# Altium integrated library B293A MiRLIN Integrated PIC32.IntLib: 44 symbols
Pins are listed as number, name and electrical type; pins without a type are passive.

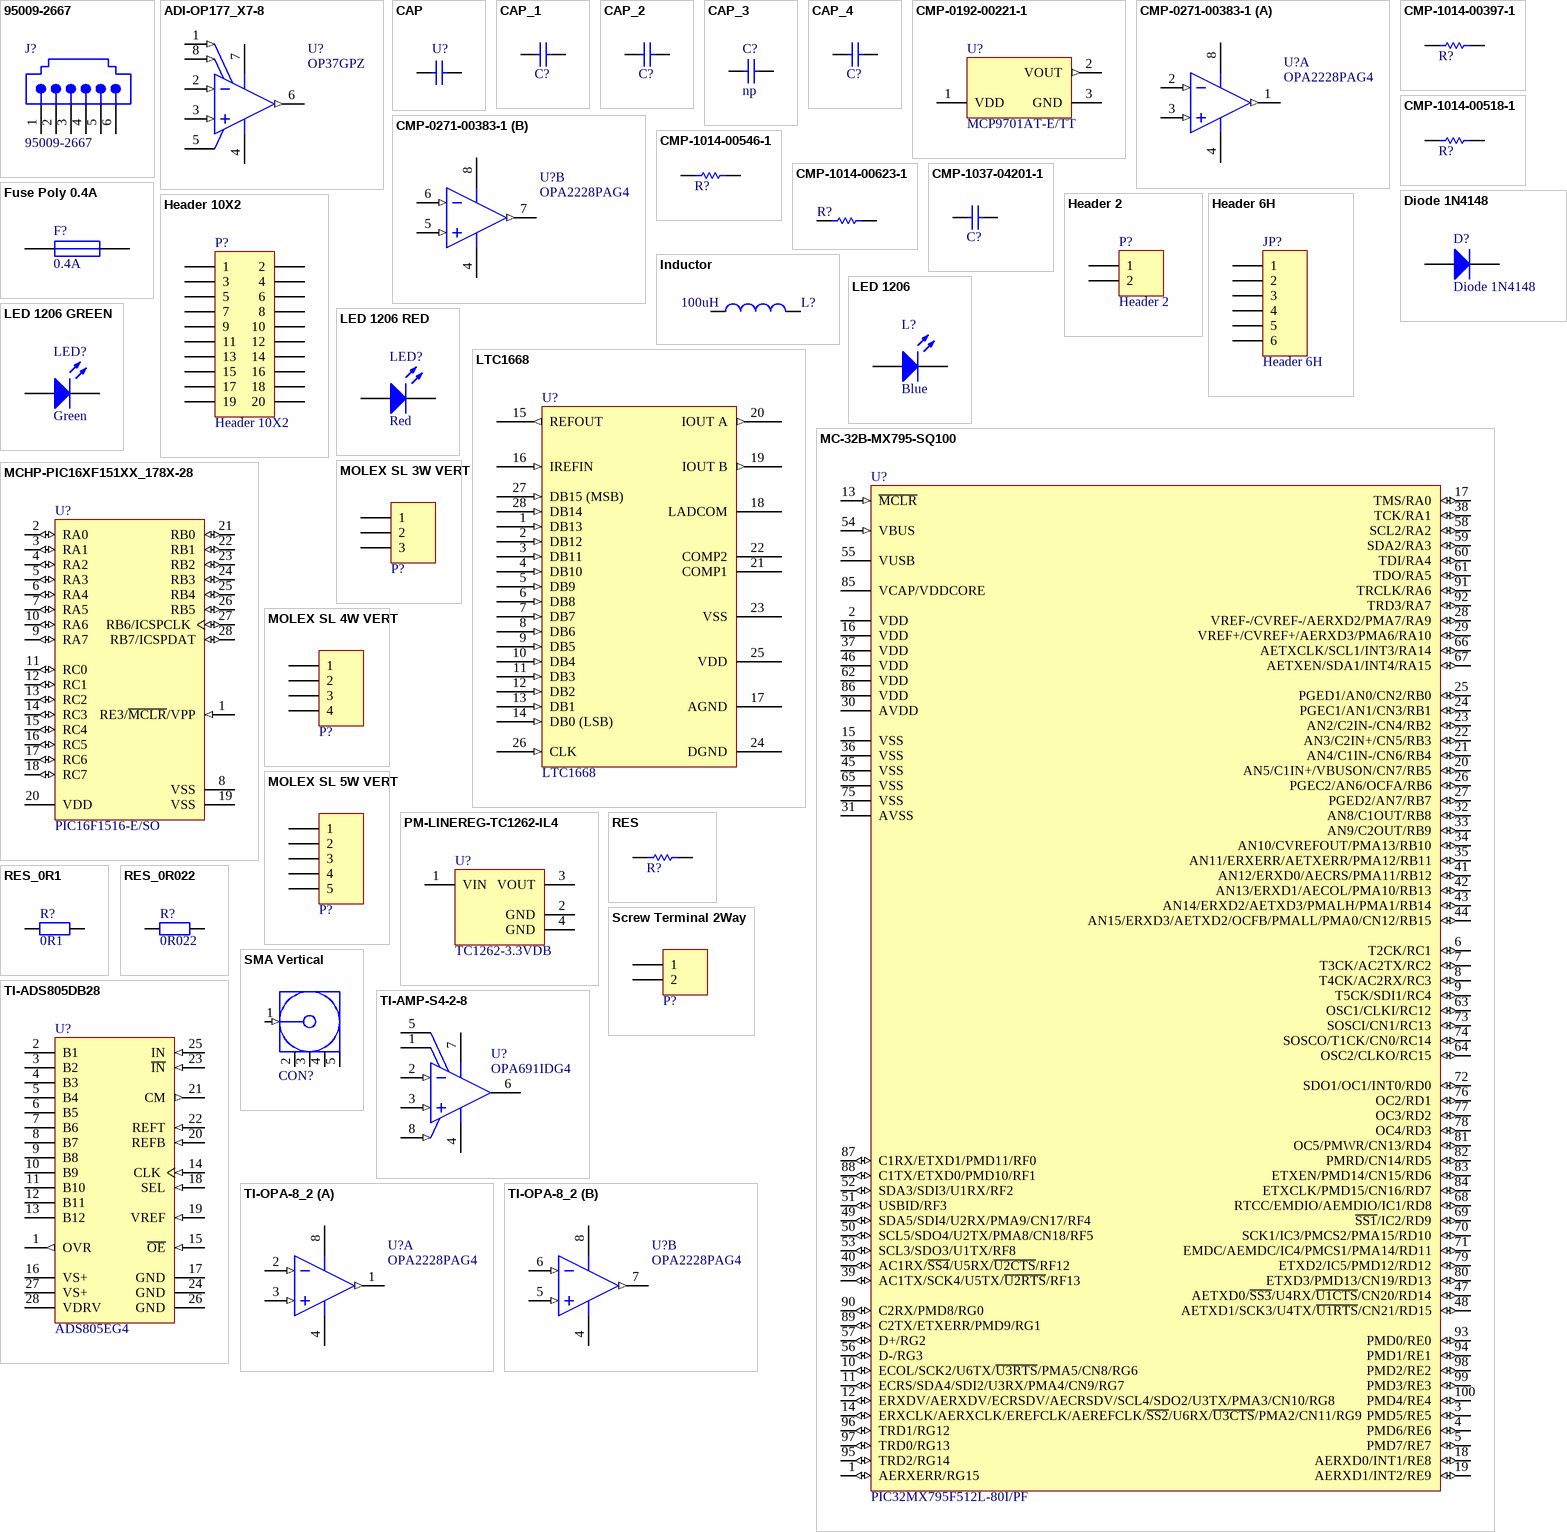
[diagram p0: symbols 95009-2667 to TI-OPA-8_2]

## 95009-2667
designator J?
Right Angle, Standard Profile, Flush Mount PCB Jack; Ports: 1; Positions/Loaded: Port1 - 6/6; PerformanceCategory: 3; PCB_Mounting: Thru-Hole; DrillSize: Nominal, Rounded to nearest 0.05mm; PCB_Layout: Complies with Manufacturer's Recommendation.; Published: 25-Jun-2002; DatasheetDocument: 18-Dec-2001; PackageDocument: 18-Dec-2001; PackageReference: 95009-2667; Publisher: Altium Limited; ComponentLink1Description: Manufacturer Link; ComponentLink1URL: http://www.molex.com/
footprint 95009-2667 (Connector; PCB Jack, Thru-Hole; 1-Port, 6 Positions, 6 Loaded; Unshielded without Lightpipes; Right Angle)
signal-integrity model Modular Jack
pins: 1, 2, 3, 4, 5, 6

## ADI-OP177_X7-8
designator U?, comment OP37GPZ
Single Channel Low Noise Operational Amplifier, 63 MHz BW, 17 V/us SR, Industrial, 8-pin DIP (N-8), Tube; Manufacturer: Analog Devices; PackageReference: N-8; ComponentLink1Description: Manufacturer URL; ComponentLink1URL: http://www.analog.com/en/index.html; ComponentLink2URL: http://www.analog.com/static/imported-files/data_sheets/OP37.pdf; ComponentLink3Description: Package Specification; PackageDescription: 8-Pin Plastic Dual In-Line Package, Row spacing 7.62 mm, Pitch 2.54 mm; ComponentLink3URL: http:/www.analog.com/static/imported-files/packages/PKG_PDF/PDIP(N)/N_8.pdf; ComponentLink2Description: Datasheet; DatasheetVersion: Rev. B; PackageVersion: 070606-A; Code_JEDEC: MS-001
footprint ADI-N-8 (DIP, 8-Leads, Body 9.59x6.6mm, Pitch 2.54mm)
pins: 1 VOS TRIM (in), 2 -IN (in), 3 +IN (in), 4 V- (power), 5 NC, 6 OUT (out), 7 V+ (power), 8 VOS TRIM (in)

## CAP
designator U?, comment CAP 10nF 50V 1206(3216)  (value not drawn)
CAP 10nF 50V ±10% 1206 (3216 Metric) Thickness 1.7mm SMD; Case-Metric: 3216; Case-EIA: 1206; Value: 10nF; Max Thickness: 1.7 mm; Technology: SMT; Rated Voltage: 50 V; Tolerance: ±10%
footprint CAPC1206(3216)170_M (Chip Capacitor, Body 3.2x1.6mm, Height 1.7mm, IPC Low Density)
footprint CAPC1206(3216)170_N (Chip Capacitor, Body 3.2x1.6mm, Height 1.7mm, IPC Medium Density)
footprint CAPC1206(3216)170_L (Chip Capacitor, Body 3.2x1.6mm, Height 1.7mm, IPC High Density)
pins: 1, 2
1 alternate drawing of the same symbol

## CAP_1
designator C?, comment CAP 10uF 50V 1206(3216)  (value not drawn)
CAP 10uF 50V ±10% 1206 (3216 Metric) Thickness 1.9mm SMD; Case-EIA: 1206; Case-Metric: 3216; Technology: SMT; Tolerance: ±10%; Max Thickness: 1.9 mm; Value: 10uF; Rated Voltage: 50 V
footprint CAPC1206(3216)190_M (Chip Capacitor, Body 3.2x1.6mm, Height 1.9mm, IPC Low Density)
footprint CAPC1206(3216)190_N (Chip Capacitor, Body 3.2x1.6mm, Height 1.9mm, IPC Medium Density)
footprint CAPC1206(3216)190_L (Chip Capacitor, Body 3.2x1.6mm, Height 1.9mm, IPC High Density)
pins: 1, 2
1 alternate drawing of the same symbol

## CAP_2
designator C?, comment CAP 10uF 16V 1206(3216)  (value not drawn)
CAP 10uF 16V -20% to +80% 1206 (3216 Metric) Thickness 1.3mm SMD; Case-EIA: 1206; Case-Metric: 3216; Rated Voltage: 16 V; Tolerance: -20% to +80%; Technology: SMT; Value: 10uF; Max Thickness: 1.3 mm
footprint CAPC1206(3216)130_L (Chip Capacitor, Body 3.2x1.6mm, Height 1.3mm, IPC High Density)
footprint CAPC1206(3216)130_M (Chip Capacitor, Body 3.2x1.6mm, Height 1.3mm, IPC Low Density)
footprint CAPC1206(3216)130_N (Chip Capacitor, Body 3.2x1.6mm, Height 1.3mm, IPC Medium Density)
pins: 1, 2
1 alternate drawing of the same symbol

## CAP_3
designator C?, comment np
Capacitor
footprint 0805
footprint 1206
footprint 3225[1210] (Chip Resistor; Body 3.2 x 2.5 mm (LxW typ))
pins: 1, 2

## CAP_4
designator C?, comment CAP 1nF 50V 2220(5750)  (value not drawn)
CAP 1nF 50V ±10% 2220 (5750 Metric) Thickness 2.2mm SMD; Case-Metric: 5750; Case-EIA: 2220; Value: 1nF; Max Thickness: 2.2 mm; Tolerance: ±10%; Rated Voltage: 50 V; Technology: SMT
footprint CAPC2220(5750)230_L (Chip Capacitor, Body 5.7x5.0mm, Height 2.3mm, IPC High Density)
footprint CAPC2220(5750)230_N (Chip Capacitor, Body 5.7x5.0mm, Height 2.3mm, IPC Medium Density)
footprint CAPC2220(5750)230_M (Chip Capacitor, Body 5.7x5.0mm, Height 2.3mm, IPC Low Density)
pins: 1, 2
1 alternate drawing of the same symbol

## CMP-0192-00221-1
designator U?, comment MCP9701AT-E/TT
Low-Power Linear Active Thermistor IC, 3-Pin SOT-23, Extended Temperature, Tape and Reel; PackageDescription: 3-Lead Plastic Small Outline Transistor (TT) [SOT-23]; DatasheetVersion: revE, Apr-2009; Code_IPC: SOT23-3; PackageVersion: revBB, Aug-2009; PackageReference: SOT-23-TT3
footprint SOT-23-TT3_M (SOT23, 3-Leads, Body 2.9x1.3mm, Pitch 0.95mm, Lead Span 2.4mm, IPC Low Density)
footprint SOT-23-TT3_L (SOT23, 3-Leads, Body 2.9x1.3mm, Pitch 0.95mm, Lead Span 2.4mm, IPC High Density)
footprint SOT-23-TT3_N (SOT23, 3-Leads, Body 2.9x1.3mm, Pitch 0.95mm, Lead Span 2.4mm, IPC Medium Density)
pins: 1 VDD (power), 2 VOUT (out), 3 GND (power)

## CMP-0271-00383-1
designator U?, comment OPA2228PAG4
High Precision, Low Noise Operational Amplifier, 5 to 36 V, -55 to 125 degC, 8-pin DIP (P8), Green (RoHS & no Sb/Br); Packing: TUBE; Sub Family: High Supply Voltage Amplifier (>=30V), Low Noise Amp (<=10nV/rtHz), Low Offset Voltage Amplifier (<=500uV), Precision Amplifier; CMRR(Min)(dB): 120; Vio (25C)(Max)(mV): 0.2; Total Supply Voltage(Max)(+5V is 5, +/-5V is 10): 36; Number of Channels: 2; Total Supply Voltage(Min)(+5V is 5, +/-5V is 10): 5; Rating: Catalog; GBW(Typ)(MHz): 33; Offset Drift(Typ)(uV/C): 0.3; IIB(Max)(pA): 10000; Iq per channel(Max)(mA): 3.8; Slew Rate(Typ)(V/us): 11; Code_JEDEC: MS-001; PackageDescription: 8-Pin Plastic In-Line, Body 9.59 x 6.35 mm, Pitch 2.54 mm; ComponentLink2URL: http://www.ti.com/lit/ds/symlink/opa2228.pdf; ComponentLink3URL: http://www.ti.com/litv/pdf/mpdi001b; PartNumber: OPA2228PAG4; PackageReference: P8; ComponentLink1URL: http://www.ti.com/; Eco-Plan: Green (RoHS & no Sb/Br); PackageVersion: 4040082/E, 04/2010; ComponentLink3Description: Package Specification; ComponentLink1Description: Manufacturer URL; Mounting Technology: Through Hole; DatasheetVersion: SBOS110A; ComponentLink2Description: Datasheet
footprint TI-P8 (DIP, 8-Leads, Body 9.59x6.35mm, Pitch 2.54mm)
pins on every part: 4 V- (power), 8 V+ (power)
part A pins: 1 OUT A (out), 2 IN A- (in), 3 IN A+ (in)
part B pins: 5 IN B+ (in), 6 IN B- (in), 7 OUT B (out)

## CMP-1014-00397-1
designator R?, comment 100R 1% 1206(3216)  (value not drawn)
100R 0.25W 1% 1206 (3216 Metric)  SMD; Value: 100.00 Ohm; Case-Metric: 3216; Case-EIA: 1206; Technology: SMT; Tolerance: 1 %
footprint RESC1206(3216)_N (Chip Resistor, Body 3.2x1.6mm, IPC Medium Density)
footprint RESC1206(3216)_L (Chip Resistor, Body 3.2x1.6mm, IPC High Density)
footprint RESC1206(3216)_M (Chip Resistor, Body 3.2x1.6mm, IPC Low Density)
pins: 1, 2
1 alternate drawing of the same symbol

## CMP-1014-00518-1
designator R?, comment 1K2 1% 1206(3216)  (value not drawn)
1K2 0.25W 1% 1206 (3216 Metric)  SMD; Case-Metric: 3216; Case-EIA: 1206; Value: 1200.00 Ohm; Technology: SMT; Tolerance: 1 %
footprint RESC1206(3216)_M (Chip Resistor, Body 3.2x1.6mm, IPC Low Density)
footprint RESC1206(3216)_L (Chip Resistor, Body 3.2x1.6mm, IPC High Density)
footprint RESC1206(3216)_N (Chip Resistor, Body 3.2x1.6mm, IPC Medium Density)
pins: 1, 2
1 alternate drawing of the same symbol

## CMP-1014-00546-1
designator R?, comment 2K2 1% 1206(3216)  (value not drawn)
2K2 0.25W 1% 1206 (3216 Metric)  SMD; Fitted: No; Value: 2200.00 Ohm; Case-Metric: 3216; Case-EIA: 1206; Technology: SMT; Tolerance: 1 %
footprint RESC1206(3216)_N (Chip Resistor, Body 3.2x1.6mm, IPC Medium Density)
footprint RESC1206(3216)_M (Chip Resistor, Body 3.2x1.6mm, IPC Low Density)
footprint RESC1206(3216)_L (Chip Resistor, Body 3.2x1.6mm, IPC High Density)
pins: 1, 2
1 alternate drawing of the same symbol

## CMP-1014-00623-1
designator R?, comment 10K 1% 1206(3216)  (value not drawn)
10K 0.25W 1% 1206 (3216 Metric)  SMD; Case-Metric: 3216; Value: 10000.00 Ohm; Case-EIA: 1206; Power: 0.25 W; Technology: SMT; Tolerance: 1 %
footprint RESC1206(3216)_L (Chip Resistor, Body 3.2x1.6mm, IPC High Density)
footprint RESC1206(3216)_M (Chip Resistor, Body 3.2x1.6mm, IPC Low Density)
footprint RESC1206(3216)_N (Chip Resistor, Body 3.2x1.6mm, IPC Medium Density)
pins: 1, 2
1 alternate drawing of the same symbol

## CMP-1037-04201-1
designator C?, comment CAP 100nF 50V 1206(3216)  (value not drawn)
CAP 100nF 50V ±10% 1206 (3216 Metric) Thickness 1.7mm SMD; Case-Metric: 3216; Case-EIA: 1206; Value: 100nF; Max Thickness: 1.7 mm; Rated Voltage: 50 V; Tolerance: ±10%; Technology: SMT
footprint CAPC1206(3216)170_L (Chip Capacitor, Body 3.2x1.6mm, Height 1.7mm, IPC High Density)
footprint CAPC1206(3216)170_N (Chip Capacitor, Body 3.2x1.6mm, Height 1.7mm, IPC Medium Density)
footprint CAPC1206(3216)170_M (Chip Capacitor, Body 3.2x1.6mm, Height 1.7mm, IPC Low Density)
pins: 1, 2
1 alternate drawing of the same symbol

## Diode 1N4148
designator D?
High Conductance Fast Diode; Published: 8-Jun-2000; LatestRevisionDate: 17-Jul-2002; LatestRevisionNote: Re-released for DXP Platform.; DatasheetVersion: 1997; PackageReference: DO-35; Publisher: Altium Limited; PackageDescription: Diode, Axial; Body 3.8 x 1.9 mm (LxDia. max), Lead Dia. 0.53 mm (max); Code_JEDEC: DO-204-AH; ComponentLink1Description: Manufacturer Link; ComponentLink1URL: http://www.fairchildsemi.com/; ComponentLink2Description: Datasheet; ComponentLink2URL: http://www.fairchildsemi.com/ds/1N%2F1N4148.pdf
footprint DO-35 (Diode, Axial; Body 3.8 x 1.9 mm (LxDia. max), Lead Dia. 0.53 mm (max))
simulation model 1N4148 (DIODE)
signal-integrity model 1N4148
pins: 1 A, 2 K

## Fuse Poly 0.4A
designator F?, comment 0.4A
POLYSWITCH, RADIAL, 0.4A; Manufacturer Part Number: RXEF040; Supplier: Farnell; Supplier Order Code: 1175862
footprint Model Name (Model Description)
footprint RXEF040
pins: 1 (power), 2 (power)

## Header 2
designator P?
Header, 2-Pin; LatestRevisionDate: 17-Jul-2002; LatestRevisionNote: Re-released for DXP Platform.; Publisher: Altium Limited
footprint HDR1X2 (Connector; Header; 2 Position)
signal-integrity model Connector
pins: 1, 2

## Header 6H
designator JP?
Header, 6-Pin, Right Angle; Revision: 17-Jul-2002: Re-released for DXP Platform.; Publisher: Altium Limited
footprint HDR1X6H (Connector; Header; 6 Position; Right Angle)
signal-integrity model Connector
pins: 1, 2, 3, 4, 5, 6

## Header 10X2
designator P?
Header, 10-Pin, Dual row; LatestRevisionDate: 17-Jul-2002; LatestRevisionNote: Re-released for DXP Platform.; Publisher: Altium Limited
footprint HDR2X10 (Connector; Header; 10x2 Position)
signal-integrity model Connector
pins: 1, 2, 3, 4, 5, 6, 7, 8, 9, 10, 11, 12, 13, 14, 15, 16, 17, 18, 19, 20

## Inductor
designator L?, comment 100uH
Power Inductor; Manufacturer Part Number: MCAL0410A1-101KU; Manufacturer: MULTICOMP; Order Code: 1864497; Fitted: Yes; RoHS Compliant: TRUE; Supplier: Farnell
footprint 12x12 (SMT Inductor 12x12)
footprint 0603
footprint 1206
footprint Inductor 4040DZ
footprint CC5750-2220 (Chip Capacitor; Body 5.7 x 5.0 mm (LxW typ))
footprint AXIAL-0.4
pins: 1, 2

## LED 1206
designator L?, comment Blue
footprint 1206 - LED
pins: A, K

## LED 1206 GREEN
designator LED?, comment Green
LED, SMD, 1206, CLR LENS, GREEN; Manufacturer Part Number: KPC-3216SGC; Order Code: 1318254; Supplier: Farnell
footprint 1206 - LED
pins: A, K

## LED 1206 RED
designator LED?, comment Red
LED, ALINGAP, SMD, 1206, RED; Manufacturer Part Number: KPC-3216SURCK; Order Code: 1318261; Supplier: Farnell
footprint 1206 - LED
pins: A, K

## LTC1668
designator U?
footprint SOP65P800X200-28N (SOP, 28-Leads, Body 10.20x5.30mm, Pitch 0.65mm, IPC Medium Density)
pins: 1 DB13 (in), 2 DB12 (in), 3 DB11 (in), 4 DB10 (in), 5 DB9 (in), 6 DB8 (in), 7 DB7 (in), 8 DB6 (in), 9 DB5 (in), 10 DB4 (in), 11 DB3 (in), 12 DB2 (in), 13 DB1 (in), 14 DB0 (LSB) (in), 15 REFOUT (out), 16 IREFIN (in), 17 AGND (power), 18 LADCOM (power), 19 IOUT B (out), 20 IOUT A (out), 21 COMP1, 22 COMP2, 23 VSS (power), 24 DGND (power), 25 VDD (power), 26 CLK (in), 27 DB15 (MSB) (in), 28 DB14 (in)

## MC-32B-MX795-SQ100
designator U?, comment PIC32MX795F512L-80I/PF
High Performance 80 MHz MIPS-Based 32-Bit Flash Microcontroller with USB, CAN and Ethernet, 512KB Program Memory, 100-pin TQFP, Industrial Temperature; ComponentLink2Description: Packaging Specification; ComponentLink3URL: http://www.microchip.com/; ComponentLink2URL: http://ww1.microchip.com/downloads/en/PackagingSpec/en012702.pdf; DatasheetVersion: revG, May-2011; ComponentLink1Description: Datasheet; PackageVersion: revBB, Aug-2009; ComponentLink3Description: Microchip.com Home; ComponentLink1URL: http://ww1.microchip.com/downloads/en/DeviceDoc/61156G.pdf; PackageDescription: 100-Lead Thin Plastic Quad Flat Pack (PF) - 14x14x1mm Body, 2.00mm [TQFP]; PackageReference: TQFP-PF100
footprint TQFP-PF100_L (Thin QFP, 100-Leads, Body 14x14mm, Pitch 0.5mm, IPC High Density)
footprint TQFP-PF100_M (Thin QFP, 100-Leads, Body 14x14mm, Pitch 0.5mm, IPC Low Density)
footprint TQFP-PF100_N (Thin QFP, 100-Leads, Body 14x14mm, Pitch 0.5mm, IPC Medium Density)
pins: 1 AERXERR/RG15 (io), 2 VDD (power), 3 PMD5/RE5 (io), 4 PMD6/RE6 (io), 5 PMD7/RE7 (io), 6 T2CK/RC1 (io), 7 T3CK/AC2TX/RC2 (io), 8 T4CK/AC2RX/RC3 (io), 9 T5CK/SDI1/RC4 (io), 10 ECOL/SCK2/U6TX/~{U3RTS}/PMA5/CN8/RG6 (io), 11 ECRS/SDA4/SDI2/U3RX/PMA4/CN9/RG7 (io), 12 ERXDV/AERXDV/ECRSDV/AECRSDV/SCL4/SDO2/U3TX/PMA3/CN10/RG8 (io), 13 ~{MCLR} (in), 14 ERXCLK/AERXCLK/EREFCLK/AEREFCLK/~{SS2}/U6RX/~{U3CTS}/PMA2/CN11/RG9 (io), 15 VSS (power), 16 VDD (power), 17 TMS/RA0 (io), 18 AERXD0/INT1/RE8 (io), 19 AERXD1/INT2/RE9 (io), 20 AN5/C1IN+/VBUSON/CN7/RB5 (io), 21 AN4/C1IN-/CN6/RB4 (io), 22 AN3/C2IN+/CN5/RB3 (io), 23 AN2/C2IN-/CN4/RB2 (io), 24 PGEC1/AN1/CN3/RB1 (io), 25 PGED1/AN0/CN2/RB0 (io), 26 PGEC2/AN6/OCFA/RB6 (io), 27 PGED2/AN7/RB7 (io), 28 VREF-/CVREF-/AERXD2/PMA7/RA9 (io), 29 VREF+/CVREF+/AERXD3/PMA6/RA10 (io), 30 AVDD (power), 31 AVSS (power), 32 AN8/C1OUT/RB8 (io), 33 AN9/C2OUT/RB9 (io), 34 AN10/CVREFOUT/PMA13/RB10 (io), 35 AN11/ERXERR/AETXERR/PMA12/RB11 (io), 36 VSS (power), 37 VDD (power), 38 TCK/RA1 (io), 39 AC1TX/SCK4/U5TX/~{U2RTS}/RF13 (io), 40 AC1RX/~{SS4}/U5RX/~{U2CTS}/RF12 (io), 41 AN12/ERXD0/AECRS/PMA11/RB12 (io), 42 AN13/ERXD1/AECOL/PMA10/RB13 (io), 43 AN14/ERXD2/AETXD3/PMALH/PMA1/RB14 (io), 44 AN15/ERXD3/AETXD2/OCFB/PMALL/PMA0/CN12/RB15 (io), 45 VSS (power), 46 VDD (power), 47 AETXD0/~{SS3}/U4RX/~{U1CTS}/CN20/RD14 (io), 48 AETXD1/SCK3/U4TX/~{U1RTS}/CN21/RD15 (io), 49 SDA5/SDI4/U2RX/PMA9/CN17/RF4 (io), 50 SCL5/SDO4/U2TX/PMA8/CN18/RF5 (io), 51 USBID/RF3 (io), 52 SDA3/SDI3/U1RX/RF2 (io), 53 SCL3/SDO3/U1TX/RF8 (io), 54 VBUS (in), 55 VUSB (power), 56 D-/RG3 (io), 57 D+/RG2 (io), 58 SCL2/RA2 (io), 59 SDA2/RA3 (io), 60 TDI/RA4 (io), 61 TDO/RA5 (io), 62 VDD (power), 63 OSC1/CLKI/RC12 (io), 64 OSC2/CLKO/RC15 (io), 65 VSS (power), 66 AETXCLK/SCL1/INT3/RA14 (io), 67 AETXEN/SDA1/INT4/RA15 (io), 68 RTCC/EMDIO/AEMDIO/IC1/RD8 (io), 69 ~{SS1}/IC2/RD9 (io), 70 SCK1/IC3/PMCS2/PMA15/RD10 (io), 71 EMDC/AEMDC/IC4/PMCS1/PMA14/RD11 (io), 72 SDO1/OC1/INT0/RD0 (io), 73 SOSCI/CN1/RC13 (io), 74 SOSCO/T1CK/CN0/RC14 (io), 75 VSS (power), 76 OC2/RD1 (io), 77 OC3/RD2 (io), 78 OC4/RD3 (io), 79 ETXD2/IC5/PMD12/RD12 (io), 80 ETXD3/PMD13/CN19/RD13 (io), 81 OC5/PMWR/CN13/RD4 (io), 82 PMRD/CN14/RD5 (io), 83 ETXEN/PMD14/CN15/RD6 (io), 84 ETXCLK/PMD15/CN16/RD7 (io), 85 VCAP/VDDCORE (power), 86 VDD (power), 87 C1RX/ETXD1/PMD11/RF0 (io), 88 C1TX/ETXD0/PMD10/RF1 (io), 89 C2TX/ETXERR/PMD9/RG1 (io), 90 C2RX/PMD8/RG0 (io), 91 TRCLK/RA6 (io), 92 TRD3/RA7 (io), 93 PMD0/RE0 (io), 94 PMD1/RE1 (io), 95 TRD2/RG14 (io), 96 TRD1/RG12 (io), 97 TRD0/RG13 (io), 98 PMD2/RE2 (io), 99 PMD3/RE3 (io), 100 PMD4/RE4 (io)

## MCHP-PIC16XF151XX_178X-28
designator U?, comment PIC16F1516-E/SO
Flash Microcontroller with XLP Technology, 20 MHz, 24 I/O, -40 to 125 degC, 28-pin SOIC (SO28), Tube; Manufacturer: Microchip; Digital Communication: 1 -A/E/USART, 1 -MSSP(SPI/I2C); I/O Pins: 24; # of A/D Channels: 17; Program Memory KWords: 8; RAM: 512; Max. CPU Speed MHz: 20; Program Memory KBytes: 14; Operation Voltage Range: 2.3V - 5.5V; Timers: 2 - 8-bit, 1 - 16-bit; Internal Oscillator: 16 MHz, 32 kHz; Packing: TUBE; ComponentLink2URL: http://www.microchip.com/stellent/groups/techpub_sg/documents/packagingspec/en012702.pdf; ComponentLink2Description: Package Specification; PackageDescription: 28-Lead Plastic Small Outline, 17.9 x 7.5 mm Body, 1.27 mm Pitch; ComponentLink1Description: Datasheet; Mounting Technology: Surface Mount; RoHS: TRUE; ComponentLink1URL: http://ww1.microchip.com/downloads/en/DeviceDoc/41452C.pdf; PackageVersion: C04-052C, 12/2012; Memory Type: Flash; DatasheetVersion: Rev. C; PartNumber: PIC16F1516-E/SO; ComponentLink3URL: Product URL:http://www.microchip.com/datasheet/PIC16F1516; PackageReference: SOIC-SO28; ComponentLink3Description: URL Link1
footprint MCHP-SOIC-SO28_N (SOIC, 28-Leads, Body 17.9x7.5mm, Pitch 1.27mm, IPC Medium Density)
footprint MCHP-SOIC-SO28_M (SOIC, 28-Leads, Body 17.9x7.5mm, Pitch 1.27mm, IPC Low Density)
footprint MCHP-SOIC-SO28_L (SOIC, 28-Leads, Body 17.9x7.5mm, Pitch 1.27mm, IPC High Density)
pins: 1 RE3/~{MCLR}/VPP (in), 2 RA0 (io), 3 RA1 (io), 4 RA2 (io), 5 RA3 (io), 6 RA4 (io), 7 RA5 (io), 8 VSS (power) "Ground reference.", 9 RA7 (io), 10 RA6 (io), 11 RC0 (io), 12 RC1 (io), 13 RC2 (io), 14 RC3 (io), 15 RC4 (io), 16 RC5 (io), 17 RC6 (io), 18 RC7 (io), 19 VSS (power) "Ground reference.", 20 VDD (power) "Positive supply.", 21 RB0 (io), 22 RB1 (io), 23 RB2 (io), 24 RB3 (io), 25 RB4 (io), 26 RB5 (io), 27 RB6/ICSPCLK (io), 28 RB7/ICSPDAT (io)

## MOLEX SL 3W VERT
designator P?  (value not drawn)
MOLEX - 70543-0037 - WIRE-BOARD CONNECTOR HEADER 3POS, 2.54MM; Order Code: 1366811; Supplier: Farnell; Manufacturer Part Number: 70543-0037
footprint MOLEX SL 3W Vertical with latch
pins: 1, 2, 3

## MOLEX SL 4W VERT
designator P?  (value not drawn)
MOLEX - 70543-0108 - CONNECTOR, HEADER, 4POS, 1ROW, 2.54MM; Order Code: 1508499; Supplier: Farnell; Manufacturer Part Number: 70543-0108
footprint MOLEX SL 4W Vertical with latch
pins: 1, 2, 3, 4

## MOLEX SL 5W VERT
designator P?  (value not drawn)
MOLEX - 70543-0004 - CONNECTOR, HEADER, 5POS, 1ROW, 2.54MM; Order Code: 2060692; Supplier: Farnell; Manufacturer Part Number: 70543-0004
footprint MOLEX SL 5W Vertical with latch
pins: 1, 2, 3, 4, 5

## PM-LINEREG-TC1262-IL4
designator U?, comment TC1262-3.3VDB
500mA Fixed Output CMOS LDO, 3-Pin SOT-223, Extended Temperature; PackageVersion: revBB, Aug-2009; DatasheetVersion: revB, 2002; PackageDescription: 3-Lead Plastic Small Outline Transistor (DB) [SOT-223]; PackageReference: SOT-223-DB3
footprint SOT-223-DB3_L (SOT223, 4-Leads, Body 6.5x3.5mm, Pitch 2.3mm, Lead Span 7mm, IPC High Density)
footprint SOT-223-DB3_N (SOT223, 4-Leads, Body 6.5x3.5mm, Pitch 2.3mm, Lead Span 7mm, IPC Medium Density)
footprint SOT-223-DB3_M (SOT223, 4-Leads, Body 6.5x3.5mm, Pitch 2.3mm, Lead Span 7mm, IPC Low Density)
pins: 1 VIN (power), 2 GND (power), 3 VOUT (power), 4 GND (power)

## RES
designator R?, comment 10K 5% 1206(3216)  (value not drawn)
10K 0.25W 5% 1206 (3216 Metric)  SMD; Value: 10000.00 Ohm; Case-Metric: 3216; Case-EIA: 1206; Tolerance: 5 %; Technology: SMT
footprint RESC1206(3216)_M (Chip Resistor, Body 3.2x1.6mm, IPC Low Density)
footprint RESC1206(3216)_L (Chip Resistor, Body 3.2x1.6mm, IPC High Density)
footprint RESC1206(3216)_N (Chip Resistor, Body 3.2x1.6mm, IPC Medium Density)
pins: 1, 2
1 alternate drawing of the same symbol

## RES_0R1
designator R?, comment 0R1
RESISTOR, THICK, 0.1OHM, 0.25W, 1%, 1206; Manufacturer Part Number: CRL1206-FW-R100ELF; Order Code: 2008301; Supplier: Farnell
footprint 1206
pins: 1, 2

## RES_0R022
designator R?, comment 0R022
RESISTOR, CURRENT SENSE, 0R022, 0.5W, 1%; Order Code: 2294085; Supplier: Farnell
footprint 1206
pins: 1, 2

## Screw Terminal 2Way
designator P?  (value not drawn)
Order Code: 2204260; Supplier: RS
footprint Screw Terminal - 2-Pos 100mil
pins: 1, 2

## SMA Vertical
designator CON?  (value not drawn)
Manufacturers Part No: 5-1814832-1; Order Code: 1248990; Supplier: Onecall
footprint SMA Vertical
pins: 1 Signal (in) "Signal Pin", 2 GND (power), 3 GND (power), 4 GND (power), 5 GND (power)

## TI-ADS805DB28
designator U?, comment ADS805EG4
12-Bit, 20 MSPS ADC Internal / External Reference, Flexible Input between 2 and 5 Vpp, Out of Range Indicator, -40 to 85 degC, 28-pin SOP (DB28), Green (RoHS & no Sb/Br); Manufacturer: Texas Instruments; PackageVersion: 4040065/E, 12/2001; ComponentLink2URL: http://www.ti.com/general/docs/lit/getliterature.tsp?genericPartNumber=ADS805&fileType=pdf; ComponentLink1URL: http://www.ti.com/; Code_JEDEC: MO-150; DatasheetVersion: SBAS073B; ComponentLink3URL: http://www.ti.com/lit/ml/msso002e/msso002e.pdf; ComponentLink1Description: Manufacturer URL; ComponentLink2Description: Datasheet; PackageDescription: 28-Pin Plastic Small Outline, Body 10.2 X 5.3 mm, Pitch 0.65 mm; PackageReference: DB28; ComponentLink3Description: Package Specification
footprint TI-DB28_M (SOP, 28-Leads, Body 10.2x5.3mm, Pitch 0.65mm, IPC Low Density)
footprint TI-DB28_L (SOP, 28-Leads, Body 10.2x5.3mm, Pitch 0.65mm, IPC High Density)
footprint TI-DB28_N (SOP, 28-Leads, Body 10.2x5.3mm, Pitch 0.65mm, IPC Medium Density)
pins: 1 OVR (out) "Over-Range Indicator (See Application Section)", 2 B1 (hiz) "Data Bit 1(D11) (MSB)", 3 B2 (hiz) "Data Bit 2 (D10)", 4 B3 (hiz) "Data Bit 3 (D9)", 5 B4 (hiz) "Data Bit 4 (D8)", 6 B5 (hiz) "Data Bit 5 (D7)", 7 B6 (hiz) "Data Bit 6 (D6)", 8 B7 (hiz) "Data Bit 7 (D5)", 9 B8 (hiz) "Data Bit 8 (D4)", 10 B9 (hiz) "Data Bit 9 (D3)", 11 B10 (hiz) "Data Bit 10 (D2)", 12 B11 (hiz) "Data Bit 11 (D1)", 13 B12 (hiz) "Data Bit 12 (D0) (LSB)", 14 CLK (in) "Convert Clock Input", 15 ~{OE} (in) "Output Enable. H = High Impedance State. L = Low or floating, normal operation (Internal pull-down resistor).", 16 VS+ (power) "+5V Supply", 17 GND (power) "Ground", 18 SEL (in) "Input Range Select (See Application Section)", 19 VREF (in) "Reference Voltage Select (I/O)", 20 REFB (in) "Bottom Reference", 21 CM (out) "Common-Mode Voltage", 22 REFT (in) "Top Reference", 23 ~{IN} (in) "Analog Input (-)", 24 GND (power) "Ground", 25 IN (in) "Analog Input (+)", 26 GND (power) "Ground", 27 VS+ (power) "+5V Supply", 28 VDRV (power) "Output Driver Voltage (See Application Section)"

## TI-AMP-S4-2-8
designator U?, comment OPA691IDG4
Wideband Current Feedback Operational Amplifier with Disable, 5 to 12 V, -40 to 85 degC, 8-pin SOIC (D8), Green (RoHS & no Sb/Br); Manufacturer: Texas Instruments; ComponentLink3Description: Package Specification; PackageVersion: 4040047-3/M, 06/2011; ComponentLink2Description: Datasheet; PackageReference: D8; DatasheetVersion: SBOS226D; ComponentLink1Description: Manufacturer URL; ComponentLink2URL: http://www.ti.com/general/docs/lit/getliterature.tsp?genericPartNumber=OPA691&fileType=pdf; ComponentLink3URL: http://www.ti.com/litv/pdf/msoi002j; PackageDescription: 8-Pin Plastic Small Outline, Body 4.9 x 3.9 mm, Pitch 1.27 mm; Code_JEDEC: MS-012; ComponentLink1URL: http://www.ti.com/
footprint TI-D8_N (SOIC, 8-Leads, Body 4.9x3.9mm, Pitch 1.27mm, IPC Medium Density)
footprint TI-D8_L (SOIC, 8-Leads, Body 4.9x3.9mm, Pitch 1.27mm, IPC High Density)
footprint TI-D8_M (SOIC, 8-Leads, Body 4.9x3.9mm, Pitch 1.27mm, IPC Low Density)
pins: 1 NC, 2 IN- (in), 3 IN+ (in), 4 VS- (power), 5 NC, 6 OUT (hiz), 7 VS+ (power), 8 ~{DIS} (in)

## TI-OPA-8_2
designator U?, comment OPA2228PAG4
High Precision, Low Noise Operational Amplifier, 5 to 36 V, -55 to 125 degC, 8-pin DIP (P8), Green (RoHS & no Sb/Br); Packing: TUBE; Sub Family: High Supply Voltage Amplifier (>=30V), Low Noise Amp (<=10nV/rtHz), Low Offset Voltage Amplifier (<=500uV), Precision Amplifier; CMRR(Min)(dB): 120; Vio (25C)(Max)(mV): 0.2; Total Supply Voltage(Max)(+5V is 5, +/-5V is 10): 36; Number of Channels: 2; Total Supply Voltage(Min)(+5V is 5, +/-5V is 10): 5; Rating: Catalog; GBW(Typ)(MHz): 33; Offset Drift(Typ)(uV/C): 0.3; IIB(Max)(pA): 10000; Iq per channel(Max)(mA): 3.8; Slew Rate(Typ)(V/us): 11; Code_JEDEC: MS-001; PackageDescription: 8-Pin Plastic In-Line, Body 9.59 x 6.35 mm, Pitch 2.54 mm; ComponentLink2URL: http://www.ti.com/lit/ds/symlink/opa2228.pdf; ComponentLink3URL: http://www.ti.com/litv/pdf/mpdi001b; PartNumber: OPA2228PAG4; PackageReference: P8; ComponentLink1URL: http://www.ti.com/; Eco-Plan: Green (RoHS & no Sb/Br); PackageVersion: 4040082/E, 04/2010; ComponentLink3Description: Package Specification; ComponentLink1Description: Manufacturer URL; Mounting Technology: Through Hole; DatasheetVersion: SBOS110A; ComponentLink2Description: Datasheet
footprint TI-P8 (DIP, 8-Leads, Body 9.59x6.35mm, Pitch 2.54mm)
pins on every part: 4 V- (power), 8 V+ (power)
part A pins: 1 OUT A (out), 2 IN A- (in), 3 IN A+ (in)
part B pins: 5 IN B+ (in), 6 IN B- (in), 7 OUT B (out)

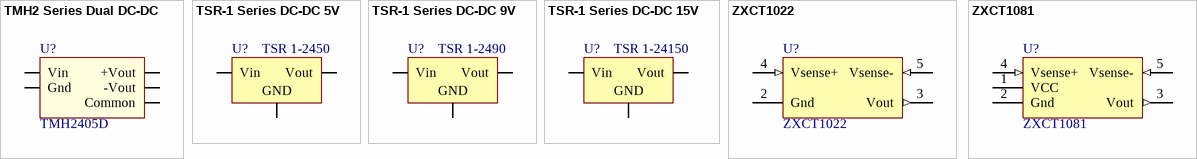
[diagram p1: symbols TMH2 Series Dual DC-DC to ZXCT1081]

## TMH2 Series Dual DC-DC
designator U?, comment TMH2405D
Isolated output; Order Code: 1007568; Supplier: Onecall
footprint TMH2 Dual output
pins: 1 Vin, 2 Gnd, 4 -Vout, 5 Common, 6 +Vout

## TSR-1 Series DC-DC 5V
designator U?, comment TSR 1-2450
CONVERTER, DC/DC, 5V, 1A, SIP; Order Code: 1696320; Supplier: Farnell
footprint TSR-1 Series
pins: 1 Vin, 2 GND, 3 Vout

## TSR-1 Series DC-DC 9V
designator U?, comment TSR 1-2490
DC/DC CONVERTER, 9V, 1A,; Order Code: 1696322; Supplier: Farnell
footprint TSR-1 Series
pins: 1 Vin, 2 GND, 3 Vout

## TSR-1 Series DC-DC 15V
designator U?, comment TSR 1-24150
CONVERTER, DC TO DC, 24V TO 15V, 15W; Order Code: 1672131; Supplier: Farnell
footprint TSR-1 Series
pins: 1 Vin, 2 GND, 3 Vout

## ZXCT1022
designator U?
footprint SOT23-5 (Footprint not found)
pins: 2 Gnd (power), 3 Vout (out), 4 Vsense+ (in), 5 Vsense- (in)

## ZXCT1081
designator U?
CURRENT MONITOR, PRECISION, 40V; Mancufacturer Part Number: ZXCT1081E5TA; Order Code: 1461568; Supplier: Farnell
footprint SOT23-5
pins: 1 VCC (power), 2 Gnd (power), 3 Vout (out), 4 Vsense+ (in), 5 Vsense- (in)